# Altium footprint library rev02.PcbLib: 52 footprints (part 4 of 4)
Each footprint in its own frame and in the unit in brackets; x right, y up, seen from the top. Pads: shape width x height; smd on the part's side, far side on the other; paste and mask are expansions set on the pad; w line width, h text height; cw(c..) or ccw(c..) is an arc to the next point about the centre after c.
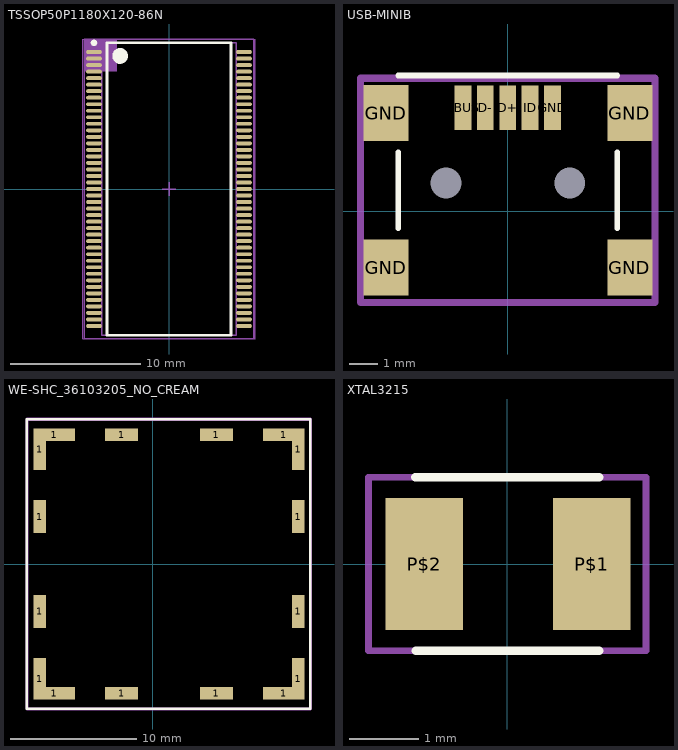
[diagram p3: the footprints below, top view; thin cyan lines are the x and y axes]

## TSSOP50P1180X120-86N [mm] "TSSOP, 86-Leads, Body 22,22x10,16mm, Pitch 0,50mm, IPC Medium Density"
height 1.2
pads (86):
  oval 1.2x0.3 smd: 1(-5.75,10.5) 2(-5.75,10) 3(-5.75,9.5) 4(-5.75,9) 5(-5.75,8.5) 6(-5.75,8) 7(-5.75,7.5) 8(-5.75,7) 9(-5.75,6.5) 10(-5.75,6) 11(-5.75,5.5) 12(-5.75,5) 13(-5.75,4.5) 14(-5.75,4) 15(-5.75,3.5) 16(-5.75,3) 17(-5.75,2.5) 18(-5.75,2) 19(-5.75,1.5) 20(-5.75,1) 21(-5.75,0.5) 22(-5.75,0) 23(-5.75,-0.5) 24(-5.75,-1) 25(-5.75,-1.5) 26(-5.75,-2) 27(-5.75,-2.5) 28(-5.75,-3) 29(-5.75,-3.5) 30(-5.75,-4) 31(-5.75,-4.5) 32(-5.75,-5) 33(-5.75,-5.5) 34(-5.75,-6) 35(-5.75,-6.5) 36(-5.75,-7) 37(-5.75,-7.5) 38(-5.75,-8) 39(-5.75,-8.5) 40(-5.75,-9) 41(-5.75,-9.5) 42(-5.75,-10) 43(-5.75,-10.5) 44(5.75,-10.5) 45(5.75,-10) 46(5.75,-9.5) 47(5.75,-9) 48(5.75,-8.5) 49(5.75,-8) 50(5.75,-7.5) 51(5.75,-7) 52(5.75,-6.5) 53(5.75,-6) 54(5.75,-5.5) 55(5.75,-5) 56(5.75,-4.5) 57(5.75,-4) 58(5.75,-3.5) 59(5.75,-3) 60(5.75,-2.5) 61(5.75,-2) 62(5.75,-1.5) 63(5.75,-1) 64(5.75,-0.5) 65(5.75,0) 66(5.75,0.5) 67(5.75,1) 68(5.75,1.5) 69(5.75,2) 70(5.75,2.5) 71(5.75,3) 72(5.75,3.5) 73(5.75,4) 74(5.75,4.5) 75(5.75,5) 76(5.75,5.5) 77(5.75,6) 78(5.75,6.5) 79(5.75,7) 80(5.75,7.5) 81(5.75,8) 82(5.75,8.5) 83(5.75,9) 84(5.75,9.5) 85(5.75,10) 86(5.75,10.5)
Top Overlay:
  circle w0.6: c-3.75,10.2 r0.3
  circle w0.25: c-5.75,11.2 r0.125
  lines w0.2: -4.75,-11.2 4.75,-11.2 4.75,11.2 -4.75,11.2 -4.75,-11.2
Mechanical 13:
  circle w0.1: c-4.25,10.3 r0.5
  lines w0.1: -5.15,-11.2 5.15,-11.2 5.15,11.2 -5.15,11.2 -5.15,-11.2
Mechanical 15:
  lines w0.05: -6.6,-11.5 6.6,-11.5 6.6,11.5 -6.6,11.5 -6.6,-11.5
  lines w0.1: -0.5,0 0.5,0 ; 0,-0.5 0,0.5
Mechanical 29:
  rectangle: -6.5,9 -4,11.5
  lines w0.1: -6.5,-11.5 6.5,-11.5 6.5,11.5 -6.5,11.5 -6.5,-11.5
  text ".Designator" at 0.5,-7.25 h1.52
3D body: height 1.2, standoff 0.05, extent -5.15,-11.2 5.15,11.2

## USB-MINIB [mm] "USB-MINIB"
pads (11):
  rect 0.6x1.6 smd: D+(0,3.7) D-(-0.8,3.7) GND(1.6,3.7) ID(0.8,3.7) VBUS(-1.6,3.7)
  rect 1.6x2 smd: GND(-4.34,-2) GND(-4.34,3.505) GND(4.36,-2) GND(4.36,3.505)
  round 1.016 hole 1.1 unplated mask+0.25: ""(-2.2,1.016) ""(2.21,1.016)
Top Overlay:
  lines w0.2: -3.9,-0.6 -3.9,2.108 ; -3.9,4.85 3.912,4.85 ; 3.912,-0.6 3.912,2.108
Mechanical 29:
  lines w0.254: -5.25,-3.25 5.25,-3.25 5.25,4.75 -5.25,4.75 -5.25,-3.25
  text ".Designator" at -3.5,0 h1.52
3D body "c-1734035-2-e-3d.stp": height 4.14, standoff -0.95, extent -4.925,-5.009 4.975,4.191

## WE-SHC_36103205_NO_CREAM [mil] "WE-SHC_36103205_NO_CREAM"
pads (16):
  rect 40x130 smd: 1(-353.54,-358.27) 1(-353.54,359) 1(454,-358.27) 1(454,359)
  rect 40x103 smd: 1(-353.54,-147.64) 1(-353.54,148) 1(454,-147.64) 1(454,148)
  rect 130x40 smd: 1(-308.27,-403.54) 1(-308.27,404) 1(409,-403.54) 1(409,404)
  rect 103x40 smd: 1(-97.64,-403.54) 1(-97.64,404) 1(198,-403.54) 1(198,404)
Top Overlay:
  lines w7.87: -393.7,-452.76 492.13,-452.76 492.13,452.76 -393.7,452.76 -393.7,-452.76
Mechanical 29:
  lines w10: -393.7,-452.76 492.13,-452.76 492.13,452.76 -393.7,452.76 -393.7,-452.76
  text ".Designator" at 374.02,-246.06 h60

## XTAL3215 [mil] "XTAL3215"
pads (2):
  rect 44x75 smd: P$1(48,0) P$2(-47.24,0)
Top Overlay:
  lines w5: -52.17,49.21 52.04,49.21 ; -51.86,-49.21 52,-49.21
Mechanical 29:
  lines w3.94: -78.74,-49.21 78.74,-49.21 78.74,49.21 -78.74,49.21 -78.74,-49.21
  text ".Designator" at -68.9,-19.68 h39.37